# EAGLE library part VNH7100AS (library st_2020)
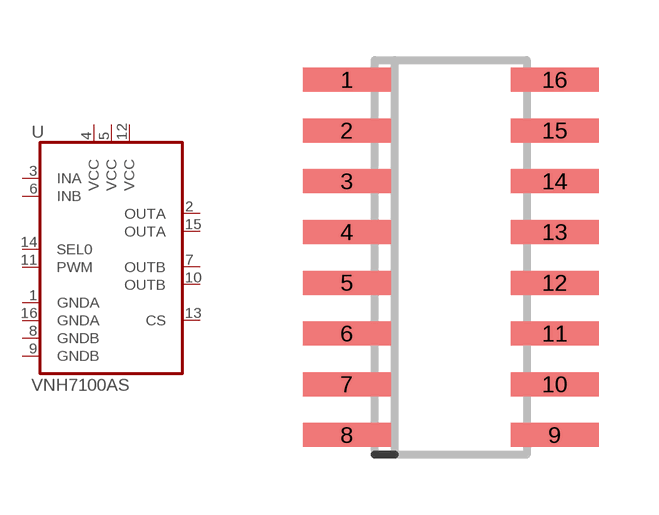
[diagram p0: symbol with the pads of SOIC_16_N; footprint SOIC_16_N]

Designator prefix -

## VNH7100AS  [SOIC_16_N]
1  GNDA  out
2  OUTA
3  INA  in
4  VCC  out
5  VCC  out
6  INB  in
7  OUTB
8  GNDB  out
9  GNDB  out
10  OUTB
11  PWM  in
12  VCC  out
13  CS
14  SEL0  in
15  OUTA
16  GNDA  out

## Footprint SOIC_16_N (pad centres in mm)
smd 2.2 x 0.6: 1 -2.6,4.445; 2 -2.6,3.175; 3 -2.6,1.905; 4 -2.6,0.635; 5 -2.6,-0.635; 6 -2.6,-1.905; 7 -2.6,-3.175; 8 -2.6,-4.445; 9 2.6,-4.445; 10 2.6,-3.175; 11 2.6,-1.905; 12 2.6,-0.635; 13 2.6,0.635; 14 2.6,1.905; 15 2.6,3.175; 16 2.6,4.445